# EAGLE library part MS5611-01BA03 (library skydrop)
Variometer Module, with stainless steel cap
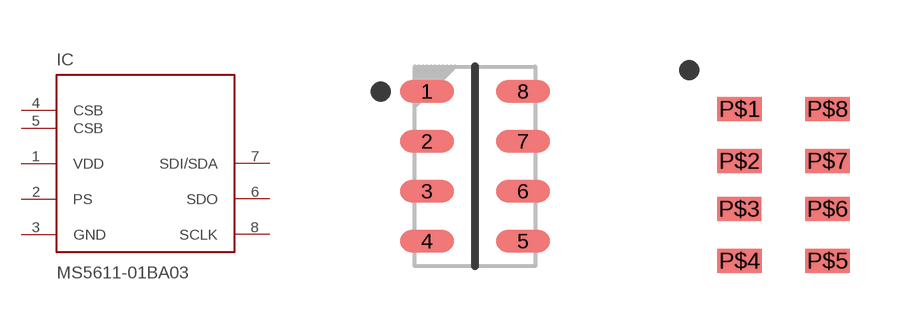
[diagram p5: symbol with the pads of SON125P300X500X100-8N; footprints SON125P300X500X100-8N, MS5611-01BA03]

Designator prefix IC

## MS5611-01BA03UNO  [SON125P300X500X100-8N]
1  VDD  pwr
2  PS  in
3  GND  pwr
4  CSB  in
5  CSB  in
6  SDO  out
7  SDI/SDA
8  SCLK  in

## MS5611-01BA03  [MS5611-01BA03]
P$1  VDD  pwr
P$2  PS  in
P$3  GND  pwr
P$4  CSB  in
P$5  CSB  in
P$6  SDO  out
P$7  SDI/SDA
P$8  SCLK  in

## Footprint SON125P300X500X100-8N (pad centres in mm)
SON,1.25mm,pitch;8 pin,3.00mm W X 5.00mm L X 1.00mm H body
smd 1.35 x 0.55: 1 -1.2,1.875; 2 -1.2,0.625; 3 -1.2,-0.625; 4 -1.2,-1.875; 5 1.2,-1.875; 6 1.2,-0.625; 7 1.2,0.625; 8 1.2,1.875

## Footprint MS5611-01BA03 (pad centres in mm)
SON,1.25mm,pitch;8 pin,3.00mm W X 5.00mm L X 1.00mm H body
smd 1.1 x 0.6: P$1 -1.1,1.9; P$2 -1.1,0.6; P$3 -1.11,-0.6; P$4 -1.1,-1.9; P$5 1.1,-1.9; P$6 1.1,-0.6; P$7 1.1,0.6; P$8 1.1,1.9